# Altium footprint library PCB封装库-中段板.PcbLib: 53 footprints (part 4 of 4)
Each footprint in its own frame and in the unit in brackets; x right, y up, seen from the top. Pads: shape width x height; smd on the part's side, far side on the other; paste and mask are expansions set on the pad; w line width, h text height; cw(c..) or ccw(c..) is an arc to the next point about the centre after c.
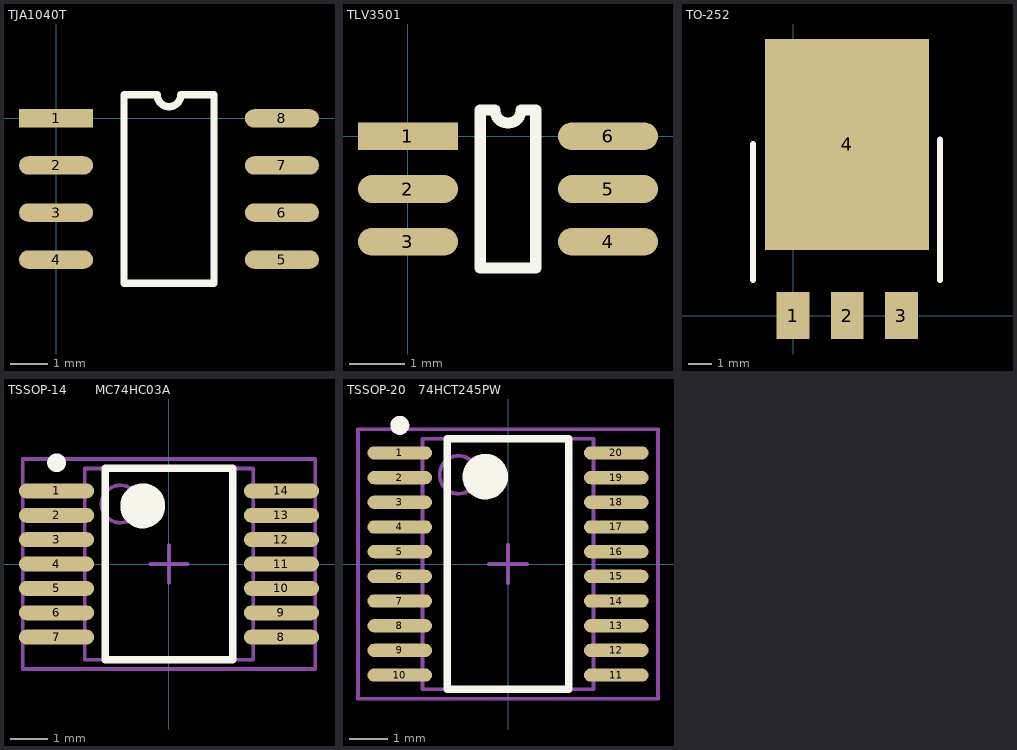
[diagram p3: the footprints below, top view; thin cyan lines are the x and y axes]

## TJA1040T [mm]
pads (8):
  rect 2x0.5 smd: 1(0,0)
  oval 2x0.5 smd: 2(0,-1.27) 3(0,-2.54) 4(0,-3.81) 5(6.1,-3.81) 6(6.1,-2.54) 7(6.1,-1.27) 8(6.1,0)
Top Overlay:
  lines w0.2: 1.835,-4.445 1.835,0.635 2.732,0.635 ccw(c3.05,0.635) 3.367,0.635 4.265,0.635 4.265,-4.445 1.835,-4.445

## TLV3501 [mm]
pads (6):
  rect 1.8x0.5 smd: 1(0,0)
  oval 1.8x0.5 smd: 2(0,-0.95) 3(0,-1.9) 4(3.6,-1.9) 5(3.6,-0.95) 6(3.6,0)
Top Overlay:
  lines w0.2: 1.3,-2.375 2.3,-2.375 2.3,0.475 2.037,0.475 cw(c1.8,0.475) 1.562,0.475 1.3,0.475 1.3,-2.375

## TO-252 [mm]
pads (4):
  rect 1.4x2 smd: 1(-0.013,0.003) 2(2.299,0.003) 3(4.61,0.003)
  rect 7x9 smd: 4(2.287,7.303)
Top Overlay:
  lines w0.254: -1.729,1.527 -1.729,7.318 ; 6.248,1.527 6.248,7.518

## TSSOP-14       MC74HC03A [mm]
height 1.2
pads (14):
  oval 2x0.4 smd: 1(-3,1.95) 2(-3,1.3) 3(-3,0.65) 4(-3,0) 5(-3,-0.65) 6(-3,-1.3) 7(-3,-1.95) 8(3,-1.95) 9(3,-1.3) 10(3,-0.65) 11(3,0) 12(3,0.65) 13(3,1.3) 14(3,1.95)
Top Overlay:
  circle w0.6: c-0.7,1.55 r0.3
  circle w0.25: c-3,2.7 r0.125
  lines w0.2: -1.7,-2.55 1.7,-2.55 1.7,2.55 -1.7,2.55 -1.7,-2.55
Mechanical 13:
  circle w0.1: c-1.3,1.6 r0.5
  lines w0.1: -2.25,-2.55 2.25,-2.55 2.25,2.55 -2.25,2.55 -2.25,-2.55
Mechanical 15:
  lines w0.1: -0.5,0 0.5,0 ; 0,-0.5 0,0.5 ; -3.9,-2.8 3.9,-2.8 3.9,2.8 -3.9,2.8 -3.9,-2.8
3D body: height 1.2, standoff 0.25, extent -2.25,-2.55 2.25,2.55

## TSSOP-20   74HCT245PW [mm] "TSSOP, 20-Leads, Body 6.6x4.5mm (max), Pitch 0.65mm, IPC Medium Density"
height 1.2
pads (20):
  oval 1.7x0.35 smd: 1(-2.85,2.925) 2(-2.85,2.275) 3(-2.85,1.625) 4(-2.85,0.975) 5(-2.85,0.325) 6(-2.85,-0.325) 7(-2.85,-0.975) 8(-2.85,-1.625) 9(-2.85,-2.275) 10(-2.85,-2.925) 11(2.85,-2.925) 12(2.85,-2.275) 13(2.85,-1.625) 14(2.85,-0.975) 15(2.85,-0.325) 16(2.85,0.325) 17(2.85,0.975) 18(2.85,1.625) 19(2.85,2.275) 20(2.85,2.925)
Top Overlay:
  circle w0.6: c-0.6,2.3 r0.3
  circle w0.25: c-2.85,3.65 r0.125
  lines w0.2: -1.6,-3.3 1.6,-3.3 1.6,3.3 -1.6,3.3 -1.6,-3.3
Mechanical 13:
  circle w0.1: c-1.3,2.35 r0.5
  lines w0.1: -2.25,-3.3 2.25,-3.3 2.25,3.3 -2.25,3.3 -2.25,-3.3
Mechanical 15:
  lines w0.1: -0.5,0 0.5,0 ; 0,-0.5 0,0.5 ; -3.95,-3.55 3.95,-3.55 3.95,3.55 -3.95,3.55 -3.95,-3.55
3D body: height 1.2, standoff 0.1, extent -2.25,-3.3 2.25,3.3